# Altium schematic symbol library iBox_Telma.SchLib: 30 symbols
Pins are listed as number, name and electrical type; pins without a type are passive.

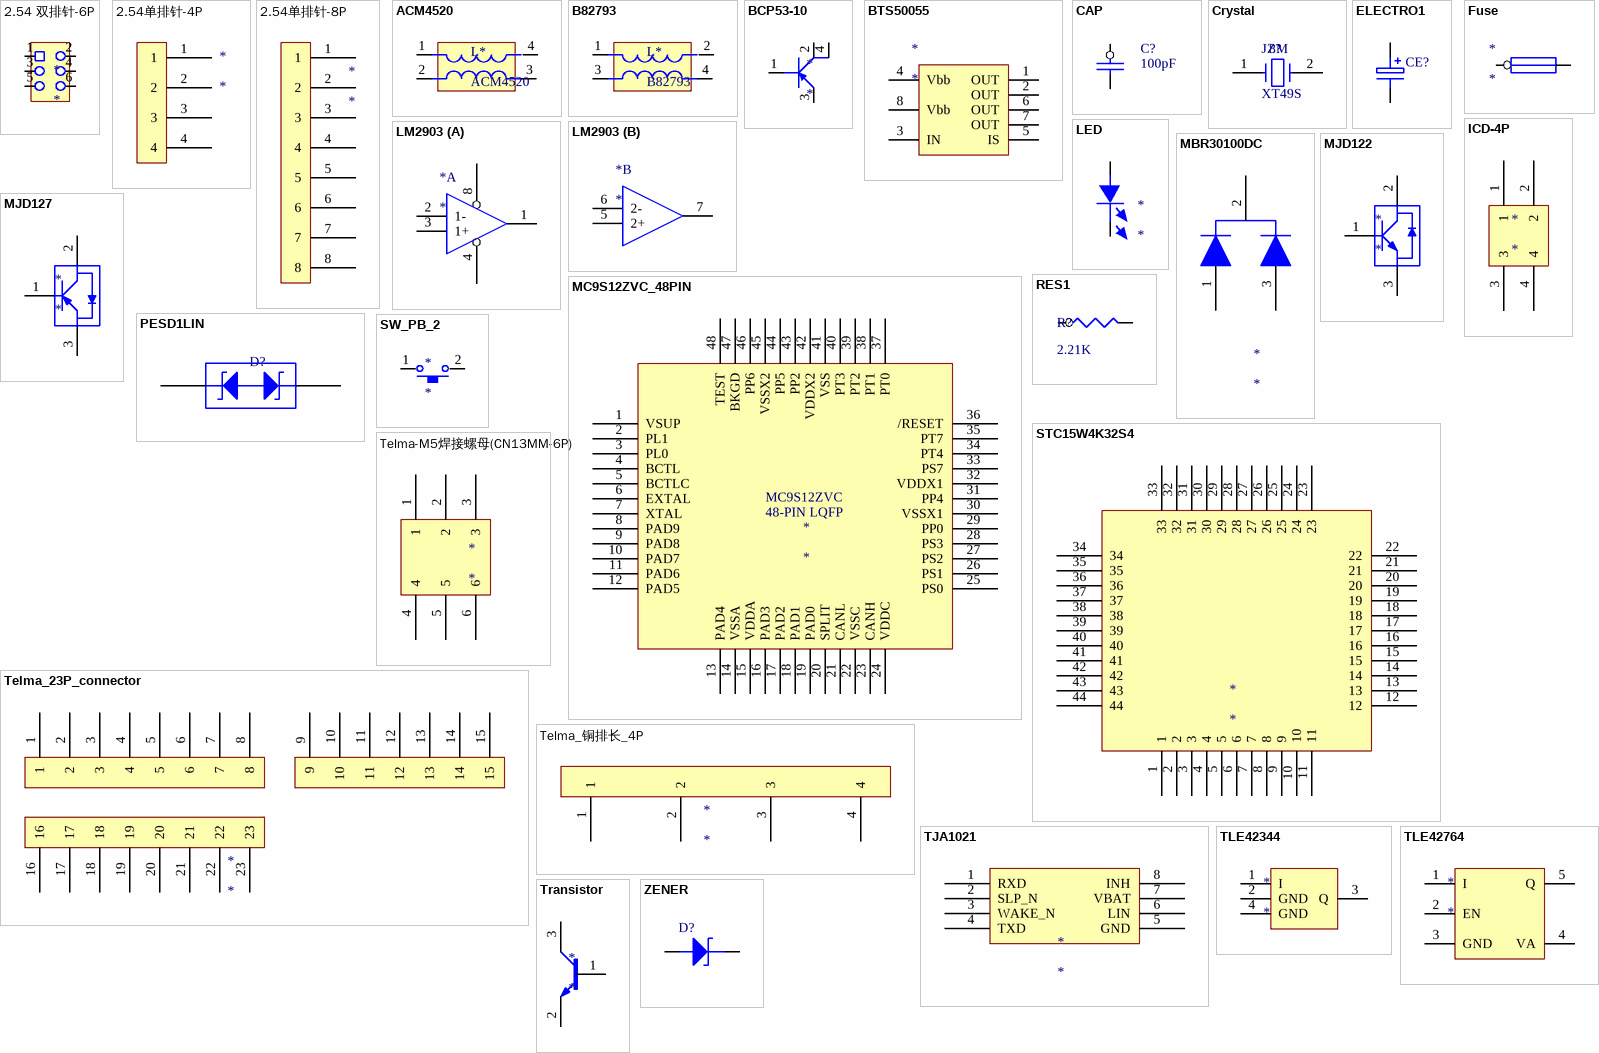
[diagram p0: symbols 2.54 双排针-6P to ZENER]

## 2.54 双排针-6P
designator *
footprint 6PIN_2.54_DOUBLE_ROW
pins: 1, 2, 3, 4, 5, 6

## 2.54单排针-4P
designator *
footprint SIP4
pins: 1, 2, 3, 4

## 2.54单排针-8P
designator *
footprint SIP8
pins: 1, 2, 3, 4, 5, 6, 7, 8

## ACM4520
designator L*
footprint ACM4520
pins: 1, 2, 3, 4

## B82793
designator L*
footprint B82793
pins: 1, 2, 3, 4

## BCP53-10
designator *
footprint SOT-223
pins: 1 B, 2 C, 3 E, 4 C

## BTS50055
designator *
pins: 1 OUT, 2 OUT, 3 IN, 4 Vbb, 5 IS, 6 OUT, 7 OUT, 8 Vbb

## CAP
designator C?, comment 100pF
footprint 0603C
footprint 0805C
footprint 1206C (Chip Capacitor, Body 3.2x1.6mm, IPC High Density)
footprint 1210C
pins: 1, 2
2 alternate drawings of the same symbol

## Crystal
designator JZ?, comment XT49S  value 8M
NX3225GD-8M
footprint NX3225GD
pins: 1 XTAL1, 2 XTAL2

## ELECTRO1
designator CE?
footprint CAP8*8
footprint RB0.3/0.6
pins: 1, 2

## Fuse
designator *
footprint 1206FUSE
pins: 1, 2

## ICD-4P
designator *
footprint ICD-4P
pins: 1, 2, 3, 4

## LED
designator *
footprint LED 0805
pins: 1, 2

## LM2903
designator *
footprint SOP-8
part A pins: 1, 2 1-, 3 1+, 4 GND, 8 Vcc
part B pins: 5 2+, 6 2-, 7

## MBR30100DC
designator *
pins: 1 A, 2 C, 3 A

## MC9S12ZVC_48PIN
designator *
footprint LQFP-48 (TSQFP, 48-Leads, Body 9,0x9,0mm (max), Pitch 0,50mm, IPC Medium Density)
pins: 1 VSUP, 2 PL1, 3 PL0, 4 BCTL, 5 BCTLC, 6 EXTAL, 7 XTAL, 8 PAD9, 9 PAD8, 10 PAD7, 11 PAD6, 12 PAD5, 13 PAD4, 14 VSSA, 15 VDDA, 16 PAD3, 17 PAD2, 18 PAD1, 19 PAD0, 20 SPLIT, 21 CANL, 22 VSSC, 23 CANH, 24 VDDC, 25 PS0, 26 PS1, 27 PS2, 28 PS3, 29 PP0, 30 VSSX1, 31 PP4, 32 VDDX1, 33 PS7, 34 PT4, 35 PT7, 36 /RESET, 37 PT0, 38 PT1, 39 PT2, 40 PT3, 41 VSS, 42 VDDX2, 43 PP2, 44 PP5, 45 VSSX2, 46 PP6, 47 BKGD, 48 TEST
text: MC9S12ZVC; 48-PIN LQFP

## MJD122
designator *
footprint TO-252
pins: 1, 2, 3

## MJD127
designator *
footprint TO-252
pins: 1, 2, 3

## PESD1LIN
designator D?
PESD1LIN
footprint SOD-323
pins: A, K
2 alternate drawings of the same symbol

## RES1
designator R?, comment 2.21K
footprint 0603R
footprint 0805R
footprint 1206R
footprint 1210R
pins: 1, 2
2 alternate drawings of the same symbol

## STC15W4K32S4
designator *
LQFP44
footprint QPF-44
pins: 1, 2, 3, 4, 5, 6, 7, 8, 9, 10, 11, 12, 13, 14, 15, 16, 17, 18, 19, 20, 21, 22, 23, 24, 25, 26, 27, 28, 29, 30, 31, 32, 33, 34, 35, 36, 37, 38, 39, 40, 41, 42, 43, 44

## SW_PB_2
designator *
footprint sw-pb-2
pins: 1, 2

## Telma-M5焊接螺母(CN13MM-6P)
designator *
footprint CN13mm-6P
pins: 1, 2, 3, 4, 5, 6

## Telma_23P_connector
designator *
footprint TE-776087
pins: 1, 2, 3, 4, 5, 6, 7, 8, 9, 10, 11, 12, 13, 14, 15, 16, 17, 18, 19, 20, 21, 22, 23

## Telma_铜排长_4P
designator *
footprint JP-4P
pins: 1, 2, 3, 4

## TJA1021
designator *
footprint SO-8
pins: 1 RXD, 2 SLP_N, 3 WAKE_N, 4 TXD, 5 GND, 6 LIN, 7 VBAT, 8 INH

## TLE42344
designator *
footprint SOT-223
pins: 1 I, 2 GND, 3 Q, 4 GND

## TLE42764
designator *
footprint TO252-5P
pins: 1 I, 2 EN, 3 GND, 4 VA, 5 Q

## Transistor
designator *
footprint SOT-23
pins: 1, 2, 3

## ZENER
designator D?
TVS
pins: A, K
2 alternate drawings of the same symbol